# Altium footprint library PCB_ConnectorHDR.PcbLib: 14 footprints
Each footprint in its own frame and in the unit in brackets; x right, y up, seen from the top. Pads: shape width x height; smd on the part's side, far side on the other; paste and mask are expansions set on the pad; w line width, h text height; cw(c..) or ccw(c..) is an arc to the next point about the centre after c.
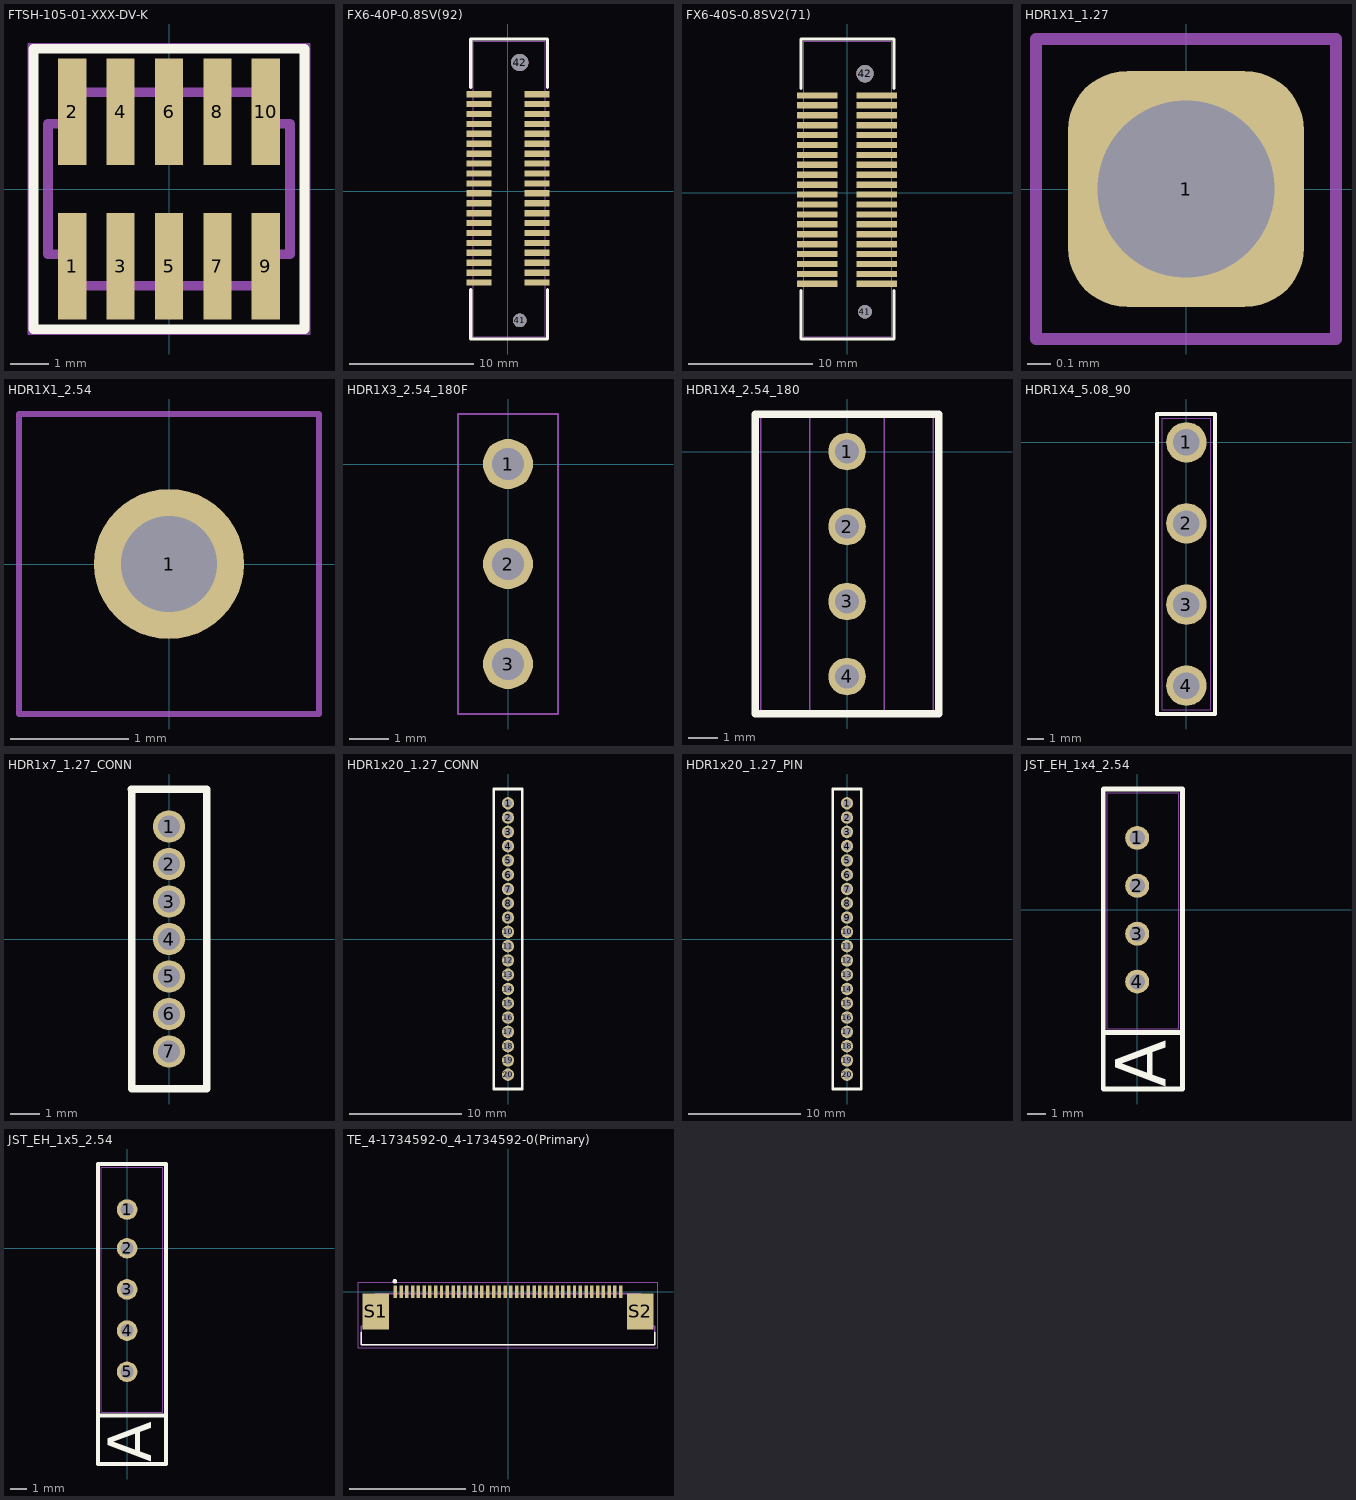
[diagram p0: the footprints below, top view; thin cyan lines are the x and y axes]

## FTSH-105-01-XXX-DV-K [mil]
pads (10):
  rect 29x110 smd mask+2: 1(-100,-80) 2(-100,80) 3(-50,-80) 4(-50,80) 5(0,-80) 6(0,80) 7(50,-80) 8(50,80) 9(100,-80) 10(100,80)
Top Overlay:
  lines w10: -140,-145 -140,145 140,145 140,-145 -140,-145
Mechanical 1:
  lines w10: -125,-67.5 -125,67.5 -100,67.5 -100,100 100,100 100,67.5 125,67.5 125,-67.5 100,-67.5 100,-100 -100,-100 -100,-67.5 -125,-67.5
Mechanical 14:
  lines w2: -145,-150 145,-150 145,150 -145,150 -145,-150
  text ".Designator" at -40,-25 h50
3D body "FTSH-105-01-F-DV-K.stp": height 241, standoff 0, extent -124.99,-114.99 125,115

## FX6-40P-0.8SV(92) [mm] "Male 40 pins Header"
pads (42):
  rect 2x0.5 smd mask+0.051: 1(-2.35,-7.35) 2(-2.35,-6.55) 3(-2.35,-5.75) 4(-2.35,-4.95) 5(-2.35,-4.15) 6(-2.35,-3.35) 7(-2.35,-2.55) 8(-2.35,-1.75) 9(-2.35,-0.95) 10(-2.35,-0.15) 11(-2.35,0.65) 12(-2.35,1.45) 13(-2.35,2.25) 14(-2.35,3.05) 15(-2.35,3.85) 16(-2.35,4.65) 17(-2.35,5.45) 18(-2.35,6.25) 19(-2.35,7.05) 20(-2.35,7.85) 21(2.35,7.85) 22(2.35,7.05) 23(2.35,6.25) 24(2.35,5.45) 25(2.35,4.65) 26(2.35,3.85) 27(2.35,3.05) 28(2.35,2.25) 29(2.35,1.45) 30(2.35,0.65) 31(2.35,-0.15) 32(2.35,-0.95) 33(2.35,-1.75) 34(2.35,-2.55) 35(2.35,-3.35) 36(2.35,-4.15) 37(2.35,-4.95) 38(2.35,-5.75) 39(2.35,-6.55) 40(2.35,-7.35)
  round 1.1 hole 1.1: 41(0.95,-10.4)
  round 1.4 hole 1.4: 42(0.95,10.4)
Top Overlay:
  lines w0.254: -3,-7.9 -3,-11.9 3.2,-11.9 3.2,-7.9 ; -3,8.4 -3,12.3 3.2,12.3 3.2,8.4
Mechanical 14:
  lines w0.051: -2.8,-11.7 -2.8,12.1 3,12.1 3,-11.7 -2.8,-11.7
  text ".Designator" at -1.095,-1.445 h1.27
3D body "FX6-40P-0.8SV.stp": height 5, standoff -0.8, extent -2.75,-11.71 2.95,12.09
3D body: height 0.25, standoff 0, extent 0,0 0,0
3D body: height 0.25, standoff 0, extent 0,0 0,0

## FX6-40S-0.8SV2(71) [mm] "Female 40 Pins Header"
pads (42):
  rect 3.3x0.5 smd mask+0.051: 1(-2.4,-7.35) 2(-2.4,-6.55) 3(-2.4,-5.75) 4(-2.4,-4.95) 5(-2.4,-4.15) 6(-2.4,-3.35) 7(-2.4,-2.55) 8(-2.4,-1.75) 9(-2.4,-0.95) 10(-2.4,-0.15) 11(-2.4,0.65) 12(-2.4,1.45) 13(-2.4,2.25) 14(-2.4,3.05) 15(-2.4,3.85) 16(-2.4,4.65) 17(-2.4,5.45) 18(-2.4,6.25) 19(-2.4,7.05) 20(-2.4,7.85) 21(2.4,7.85) 22(2.4,7.05) 23(2.4,6.25) 24(2.4,5.45) 25(2.4,4.65) 26(2.4,3.85) 27(2.4,3.05) 28(2.4,2.25) 29(2.4,1.45) 30(2.4,0.65) 31(2.4,-0.15) 32(2.4,-0.95) 33(2.4,-1.75) 34(2.4,-2.55) 35(2.4,-3.35) 36(2.4,-4.15) 37(2.4,-4.95) 38(2.4,-5.75) 39(2.4,-6.55) 40(2.4,-7.35)
  round 1.1 hole 1.1: 41(1.45,-9.6)
  round 1.4 hole 1.4: 42(1.45,9.6)
Top Overlay:
  lines w0.254: -3.7,-7.9 -3.7,-11.8 3.8,-11.8 3.8,-7.9 ; -3.7,8.4 -3.7,12.4 3.8,12.4 3.8,8.4
Mechanical 14:
  lines w0.051: -3.5,-11.6 -3.5,12.2 3.6,12.2 3.6,-11.6 -3.5,-11.6
  text ".Designator" at -1.095,-1.445 h1.27
3D body "FX6-40S-0.8SV2.stp": height 6, standoff -0.8, extent -3.48,-11.59 3.62,12.21

## HDR1X1_1.27 [mm] "500mil pad"
pads (1):
  rrect50% 1x1 hole 0.75: 1(0,0)
Mechanical 13:
  lines w0.051: -0.635,-0.635 0.635,-0.635 0.635,0.635 -0.635,0.635 -0.635,-0.635
Mechanical 14:
  lines w0.051: -0.635,-0.635 -0.635,0.635 0.635,0.635 0.635,-0.635 -0.635,-0.635
  text ".Designator" at 0,0 h1.27

## HDR1X1_2.54 [mil] "100mil pad"
pads (1):
  round 50 hole 32: 1(0,0)
Mechanical 13:
  lines w2: -50,-50 50,-50 50,50 -50,50 -50,-50
Mechanical 14:
  lines w2: -50,-50 50,-50 50,50 -50,50 -50,-50
  text ".Designator" at 0,0 h50

## HDR1X3_2.54_180F [mil]
height 169.29
pads (3):
  round 50 hole 32: 1(0,0) 2(0,-100) 3(0,-200)
Mechanical 13:
  lines w2: -50,-250 -50,50 50,50 50,-250 -50,-250
Mechanical 14:
  lines w2: -50,-250 -50,50 50,50 50,-250 -50,-250
  text ".Designator" at -40,-125 h50
3D body "female_header_a-bl254-eg-g03d.stp": height 334.65, standoff -125.98, extent -49.21,-254.91 49.22,54.92

## HDR1X4_2.54_180 [mil]
height 169.29
pads (4):
  round 50 hole 32: 1(0,0) 2(0,-100) 3(0,-200) 4(0,-300)
Top Overlay:
  lines w10: -122.05,-350 122.05,-350 122.05,50 -122.05,50 -122.05,-350
Mechanical 13:
  lines w2: -50,-350 -50,50 50,50 50,-350 -50,-350
Mechanical 14:
  lines w2: -115,-350 -115,50 115,50 115,-350 -115,-350
  text ".Designator" at -40,-175 h50
3D body "pin_header_aw140-eg-g04d.stp": height 322.83, standoff -118.11, extent -49.18,-350 49.18,50

## HDR1X4_5.08_90 [mil]
height 169.29
pads (4):
  round 100 hole 65: 1(0,0) 2(0,-200) 3(0,-400) 4(0,-600)
Top Overlay:
  lines w10: -72.05,-670 -72.05,70 70,70 70,-670 -72.05,-670
Mechanical 13:
  lines w2: -60,-660 -60,60 60,60 60,-660 -60,-660
Mechanical 14:
  lines w2: -60,-660 -60,60 60,60 60,-660 -60,-660
  text ".Designator" at 0,-325 h50

## HDR1x7_1.27_CONN [mm]
pads (7):
  round 1.1 hole 0.75: 1(0,3.81) 2(0,2.54) 3(0,1.27) 4(0,0) 5(0,-1.27) 6(0,-2.54) 7(0,-3.81)
Top Overlay:
  lines w0.254: -1.27,-5.08 1.27,-5.08 1.27,5.08 -1.27,5.08 -1.27,-5.08
Mechanical 13:
  lines w0.051: -1.27,-5.08 1.27,-5.08 1.27,5.08 -1.27,5.08 -1.27,-5.08
  lines w0.127: -0.254,0 0.254,0 ; 0,-0.254 0,0.254
Mechanical 14:
  lines w0.051: -1.27,-5.08 1.27,-5.08 1.27,5.08 -1.27,5.08 -1.27,-5.08
  text ".Designator" at 0.508,-6.325 h1.27
3D body "m52-5000745_asm.stp": height 4.62, standoff -2.98, extent -1.13,-4.45 1.27,4.44

## HDR1x20_1.27_CONN [mm]
pads (20):
  round 1.1 hole 0.75: 1(0,12.065) 2(0,10.795) 3(0,9.525) 4(0,8.255) 5(0,6.985) 6(0,5.715) 7(0,4.445) 8(0,3.175) 9(0,1.905) 10(0,0.635) 11(0,-0.635) 12(0,-1.905) 13(0,-3.175) 14(0,-4.445) 15(0,-5.715) 16(0,-6.985) 17(0,-8.255) 18(0,-9.525) 19(0,-10.795) 20(0,-12.065)
Top Overlay:
  lines w0.254: -1.27,-13.335 -1.27,13.335 1.27,13.335 1.27,-13.335 ; -1.27,-13.335 -1.27,-13.335 ; -1.27,-13.335 1.27,-13.335 ; 1.27,-13.335 1.27,-13.335
Mechanical 13:
  lines w0.051: -1.27,-13.335 1.27,-13.335 1.27,13.335 -1.27,13.335 -1.27,-13.335
Mechanical 14:
  lines w0.051: -1.27,-13.335 -1.27,13.335 1.27,13.335 1.27,-13.335 -1.27,-13.335
  text ".Designator" at 0.508,-6.223 h1.27
3D body "m52-5002045_asm.stp": height 4.62, standoff -2.98, extent -1.232,-12.7 1.168,12.7

## HDR1x20_1.27_PIN [mm]
pads (20):
  round 1.1 hole 0.75: 1(0,12.065) 2(0,10.795) 3(0,9.525) 4(0,8.255) 5(0,6.985) 6(0,5.715) 7(0,4.445) 8(0,3.175) 9(0,1.905) 10(0,0.635) 11(0,-0.635) 12(0,-1.905) 13(0,-3.175) 14(0,-4.445) 15(0,-5.715) 16(0,-6.985) 17(0,-8.255) 18(0,-9.525) 19(0,-10.795) 20(0,-12.065)
Top Overlay:
  lines w0.254: -1.27,-13.335 -1.27,13.335 1.27,13.335 1.27,-13.335 ; -1.27,-13.335 -1.27,-13.335 ; -1.27,-13.335 1.27,-13.335 ; 1.27,-13.335 1.27,-13.335
Mechanical 13:
  lines w0.051: -1.27,-13.335 1.27,-13.335 1.27,13.335 -1.27,13.335 -1.27,-13.335
Mechanical 14:
  lines w0.051: -1.27,-13.335 -1.27,13.335 1.27,13.335 1.27,-13.335 -1.27,-13.335
  text ".Designator" at 0.508,-6.223 h1.27
3D body "M50-3532042.STEP": height 4.07, standoff -2.23, extent -1.05,-12.7 1.05,12.7

## JST_EH_1x4_2.54 [mil] "JST EH Connector 4 Pins Top Entry Type"
pads (4):
  round 50 hole 32: 1(0,150) 2(0,50) 3(0,-50) 4(0,-150)
Top Overlay:
  lines w10: -70.87,-255.91 94.49,-255.91 ; -70.87,-374.02 -70.87,251.97 94.49,251.97 94.49,-374.02 -70.87,-374.02
  text "A" at 94.49,-370.08 h180
Mechanical 13:
  lines w2: -62.99,-248.03 86.61,-248.03 86.61,244.09 -62.99,244.09 -62.99,-248.03
Mechanical 14:
  lines w2: -70.87,-374.02 94.49,-374.02 94.49,251.97 -70.87,251.97 -70.87,-374.02
  text ".Designator" at -40,-25 h50
3D body "B4B-EH-A.STEP": height 238.22, standoff -123.98, extent -62.99,-248.03 86.61,244.1

## JST_EH_1x5_2.54 [mil] "JST EH Connector 5 Pins Top Entry Type"
pads (5):
  round 50 hole 32: 1(0,94.09) 2(0,0) 3(0,-100) 4(0,-200) 5(0,-300)
Top Overlay:
  lines w10: -70.87,-405.91 94.49,-405.91 ; -70.87,-524.02 94.49,-524.02 94.49,204.72 -70.87,204.72 -70.87,-524.02
  text "A" at 94.49,-520.08 h180
Mechanical 13:
  lines w2: -62.99,-398.03 -62.99,196.85 86.61,196.85 86.61,-398.03 -62.99,-398.03
Mechanical 14:
  lines w2: -70.87,-524.02 -70.87,204.72 94.49,204.72 94.49,-524.02 -70.87,-524.02
  text ".Designator" at -40,-175 h50
3D body "B5B-EH-A.STEP": height 236.22, standoff -125.98, extent -62.99,-395.27 86.62,195.28

## TE_4-1734592-0_4-1734592-0(Primary) [mm]
pads (42):
  rect 0.3x1.1 smd: 1(-9.75,0) 2(-9.25,0) 3(-8.75,0) 4(-8.25,0) 5(-7.75,0) 6(-7.25,0) 7(-6.75,0) 8(-6.25,0) 9(-5.75,0) 10(-5.25,0) 11(-4.75,0) 12(-4.25,0) 13(-3.75,0) 14(-3.25,0) 15(-2.75,0) 16(-2.25,0) 17(-1.75,0) 18(-1.25,0) 19(-0.75,0) 20(-0.25,0) 21(0.25,0) 22(0.75,0) 23(1.25,0) 24(1.75,0) 25(2.25,0) 26(2.75,0) 27(3.25,0) 28(3.75,0) 29(4.25,0) 30(4.75,0) 31(5.25,0) 32(5.75,0) 33(6.25,0) 34(6.75,0) 35(7.25,0) 36(7.75,0) 37(8.25,0) 38(8.75,0) 39(9.25,0) 40(9.75,0)
  rect 2.3x3.1 smd: S1(-11.42,-1.7) S2(11.42,-1.7)
Top Overlay:
  circle w0.2: c-9.779,0.889 r0.1
  lines w0.127: -12.71,-3.5 -12.71,-4.6 12.71,-4.6 12.71,-3.5
Mechanical 1:
  lines w0.127: -12.71,-4.6 12.71,-4.6 12.71,-3 11.5,-3 11.5,-0.2 -11.5,-0.2 -11.5,-3 -12.71,-3 -12.71,-4.6
Mechanical 4:
  lines w0.05: -12.96,-4.85 12.96,-4.85 12.96,0.8 -12.96,0.8 -12.96,-4.85
3D body "c-4-1734592-0-c-3d.stp": height 2.02, standoff -0.03, extent -12.715,-4.582 12.715,0.528